# EAGLE library part 5034800600 (library FPC FFC Connectors)
CONN FFC FPC 6POS 0.50MM R/A Manufacturer's datasheet <https://www.molex.com/pdm_docs/sd/5034800600_sd.pdf>
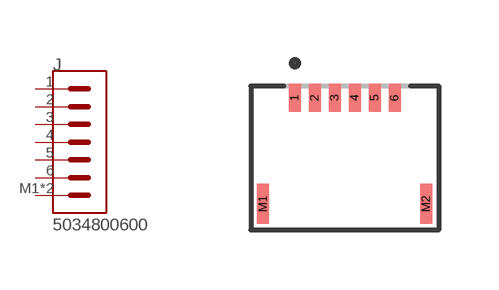
[diagram p1: symbol with the pads of 5034800600; footprint 5034800600]

Designator prefix J

## 5034800600 (CREATED_BY: PCBLayout.com; DIGIKEY_PARTNO: WM1387TR-ND; MANUFACTURER: Molex; MPN: 5034800600)  [5034800600]
1  1  pas
2  2  pas
3  3  pas
4  4  pas
5  5  pas
6  6  pas
M1  SHIELD  pwr
M2  SHIELD  pwr

## Footprint 5034800600 (pad centres in mm)
smd 0.3 x 0.7: 1 -1.25,0; 2 -0.75,0; 3 -0.25,0; 4 0.25,0; 5 0.75,0; 6 1.25,0
smd 0.3 x 1: M1 -2.04,-2.65; M2 2.04,-2.65